# Altium footprint library Spirit_Level_Project.PcbLib: 35 footprints (part 2 of 3)
Each footprint in its own frame and in the unit in brackets; x right, y up, seen from the top. Pads: shape width x height; smd on the part's side, far side on the other; paste and mask are expansions set on the pad; w line width, h text height; cw(c..) or ccw(c..) is an arc to the next point about the centre after c.
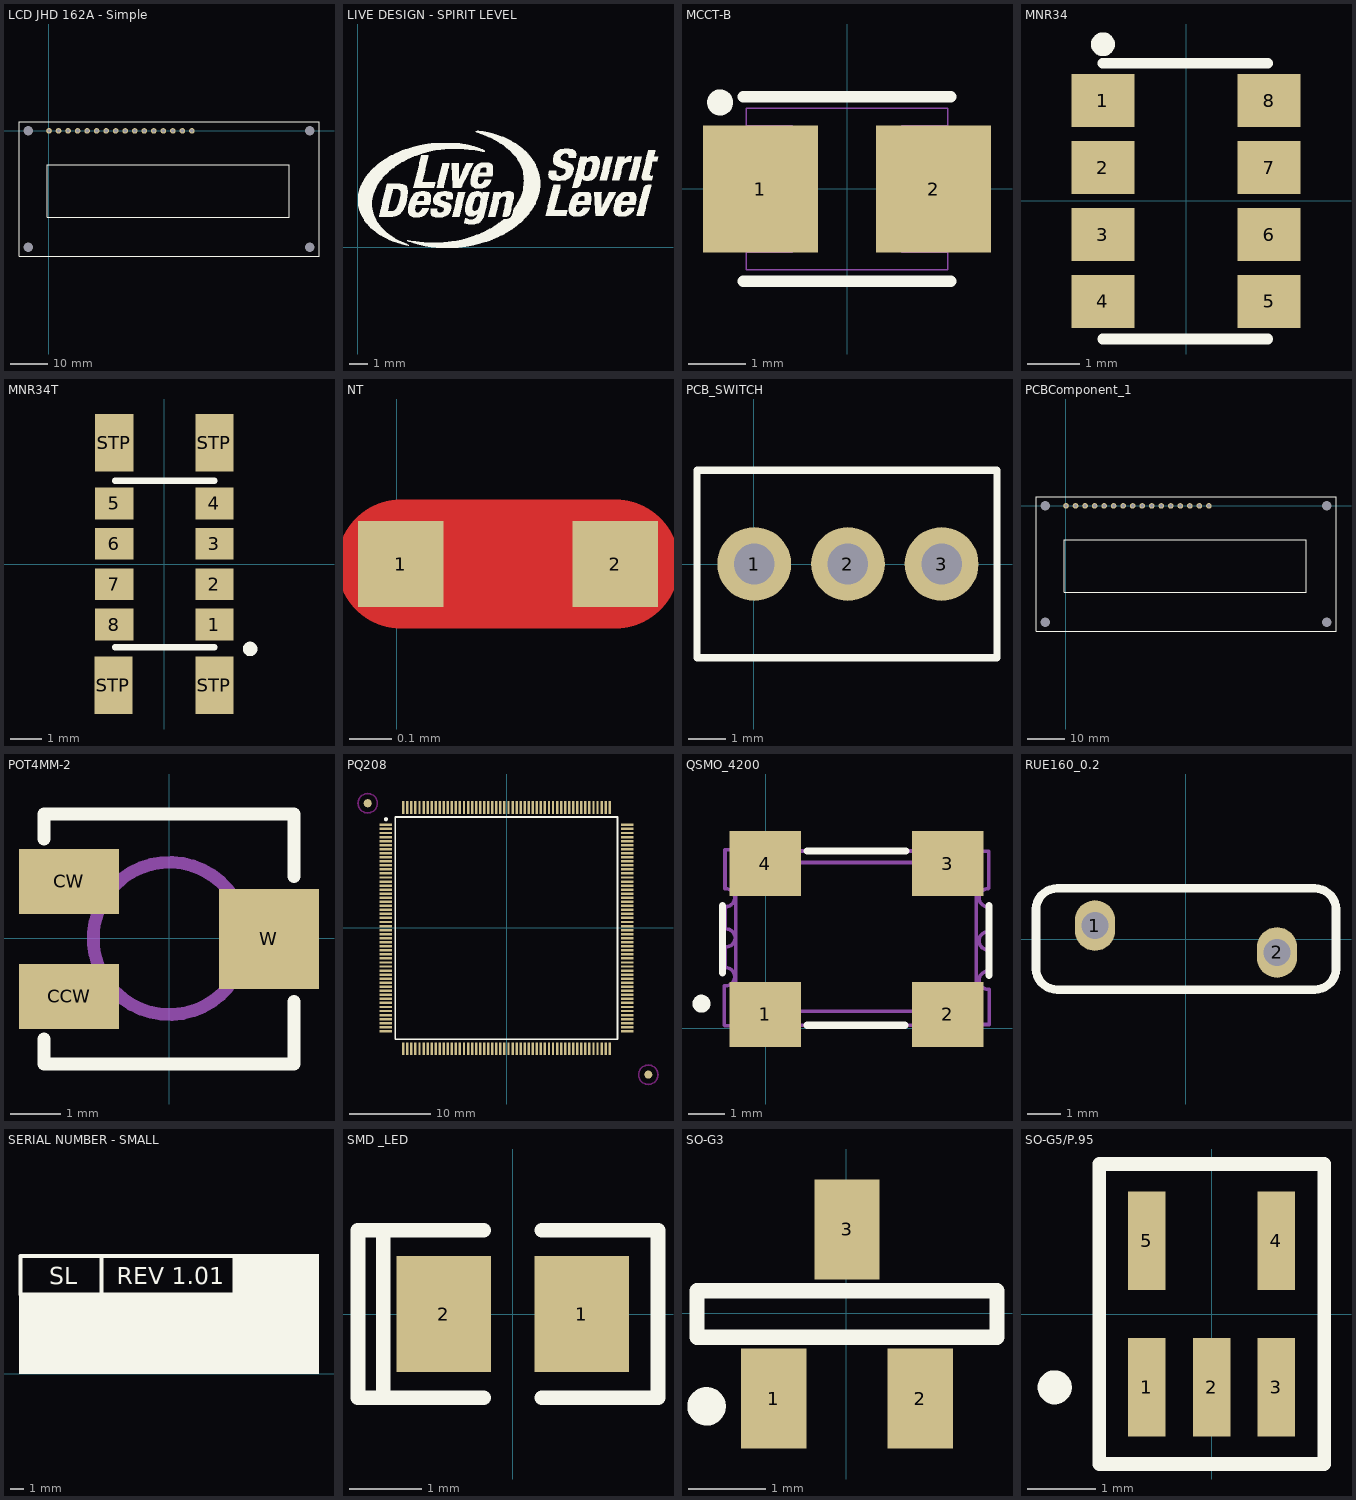
[diagram p1: the footprints below, top view; thin cyan lines are the x and y axes]

## LCD JHD 162A - Simple [mm] "LCD JHD162A Simple Footprint"
pads (20):
  round 1.5 hole 0.9: 1(0,0) 2(2.54,0) 3(5.08,0) 4(7.62,0) 5(10.16,0) 6(12.7,0) 7(15.24,0) 8(17.78,0) 9(20.32,0) 10(22.86,0) 11(25.4,0) 12(27.94,0) 13(30.48,0) 14(33.02,0) 15(35.56,0) 16(38.1,0)
  round 2.3 hole 2.5 unplated: M1(-5.5,0) M2(69.5,0) M3(-5.5,-31) M4(69.5,-31)
Top Overlay:
  lines w0.2: -8,-33.5 -8,2.5 72,2.5 72,-33.5 -8,-33.5 ; -0.5,-23 -0.5,-9 64,-9 64,-23 -0.5,-23

## LIVE DESIGN - SPIRIT LEVEL [mm]
Top Overlay:
  drawing of 2120 lines, arcs and shapes, not listed

## MCCT-B [mm]
pads (2):
  rect 2x2.2 smd: 1(-1.505,-0.002) 2(1.495,-0.002)
Top Overlay:
  circle w0.25: c-2.205,1.498 r0.1
  lines w0.2: -1.805,-1.602 1.795,-1.602 ; -1.805,1.598 1.795,1.598
Mechanical 15:
  lines w0.025: -1.755,-1.102 -0.955,-1.102 -0.955,1.098 -1.755,1.098 ; 1.745,-1.102 0.945,-1.102 0.945,1.098 1.745,1.098 ; -1.755,-1.402 -1.755,1.398 1.745,1.398 1.745,-1.402 -1.755,-1.402
3D body: height 1.27, standoff 0, extent -2.286,-0.889 2.286,0.889

## MNR34 [mm]
pads (8):
  rect 1.2x1 smd: 1(-1.578,1.898) 2(-1.578,0.628) 3(-1.578,-0.642) 4(-1.578,-1.912) 5(1.572,-1.912) 6(1.572,-0.642) 7(1.572,0.628) 8(1.572,1.898)
Top Overlay:
  circle w0.254: c-1.578,2.965 r0.1
  lines w0.2: -1.578,-2.623 1.546,-2.623 ; -1.578,2.609 1.546,2.609
3D body: height 1.27, standoff 0, extent -2.032,-2.286 2.032,2.286

## MNR34T [mm]
pads (12):
  rect 1.2x1 smd: 1(1.575,-1.896) 2(1.575,-0.626) 3(1.575,0.644) 4(1.575,1.914) 5(-1.575,1.914) 6(-1.575,0.644) 7(-1.575,-0.626) 8(-1.575,-1.896)
  rect 1.2x1.8 smd: STP(-1.6,-3.801) STP(-1.575,3.819) STP(1.575,-3.801) STP(1.575,3.819)
Top Overlay:
  circle w0.254: c2.694,-2.658 r0.1
  lines w0.2: -1.549,-2.607 1.575,-2.607 ; -1.549,2.625 1.575,2.625
3D body: height 2, standoff 0, extent -1.649,-2.707 1.675,2.725

## NT [mm]
pads (2):
  rect 0.2x0.2 smd: 1(0.01,0.011) 2(0.51,0.011)
Top Layer:
  lines w0.3: 0.01,0.011 0.51,0.011

## PCB_SWITCH [mm]
pads (3):
  round 2 hole 1.1: 1(0.011,0.005) 2(2.551,0.005) 3(5.091,0.005)
Top Overlay:
  lines w0.2: -1.539,-2.535 -1.539,2.545 6.591,2.545 6.591,-2.535 -1.539,-2.535
3D body: height 8, standoff 0, extent 0.258,-2.282 4.822,2.282
3D body: height 15, standoff 0, extent 1.816,-0.724 3.264,0.724
3D body: height 5.08, standoff 0, extent -1.524,-2.54 6.604,2.54

## PCBComponent_1 [mm]
pads (20):
  round 1.5 hole 0.9: 1(0,0) 2(2.54,0) 3(5.08,0) 4(7.62,0) 5(10.16,0) 6(12.7,0) 7(15.24,0) 8(17.78,0) 9(20.32,0) 10(22.86,0) 11(25.4,0) 12(27.94,0) 13(30.48,0) 14(33.02,0) 15(35.56,0) 16(38.1,0)
  round 2.3 hole 2.5 unplated: M1(-5.5,0) M2(69.5,0) M3(-5.5,-31) M4(69.5,-31)
Top Overlay:
  lines w0.2: -8,-33.5 72,-33.5 72,2.5 -8,2.5 -8,-33.5 ; -0.5,-23 64,-23 64,-9 -0.5,-9 -0.5,-23

## POT4MM-2 [mm]
pads (3):
  rect 2x1.3 smd: CCW(-2.008,-1.162) CW(-2.008,1.138)
  rect 2x2 smd: W(1.992,-0.012)
Top Overlay:
  lines w0.254: -2.508,-2.012 -2.508,-2.512 2.492,-2.512 2.492,-1.262 ; -2.508,1.988 -2.508,2.488 2.492,2.488 2.492,1.238
Mechanical 2:
  circle w0.254: c0,0 r1.524
3D body: height 3.05, standoff 0, extent -1.519,0.132 1.519,1.532
3D body: height 3.05, standoff 0, extent -1.519,-1.532 1.519,-0.132
3D body: height 0.64, standoff 0, extent 1.143,-0.889 2.921,0.889
3D body: height 0.64, standoff 0, extent -2.921,-1.651 -1.143,-0.635
3D body: height 0.64, standoff 0, extent -2.921,0.635 -1.143,1.651
3D body: height 2.54, standoff 0, extent -2.54,-2.413 2.54,2.413
3D body: height 2.67, standoff 0, extent -1.449,-1.449 1.449,1.449

## PQ208 [mm]
pads (210):
  rect 1.55x0.3 smd: 1(-14.902,12.738) 2(-14.902,12.238) 3(-14.902,11.738) 4(-14.902,11.238) 5(-14.902,10.738) 6(-14.902,10.238) 7(-14.902,9.738) 8(-14.902,9.238) 9(-14.902,8.738) 10(-14.902,8.238) 11(-14.902,7.738) 12(-14.902,7.238) 13(-14.902,6.738) 14(-14.902,6.238) 15(-14.902,5.738) 16(-14.902,5.238) 17(-14.902,4.738) 18(-14.902,4.238) 19(-14.902,3.738) 20(-14.902,3.238) 21(-14.902,2.738) 22(-14.902,2.238) 23(-14.902,1.738) 24(-14.902,1.238) 25(-14.902,0.738) 26(-14.902,0.238) 27(-14.902,-0.262) 28(-14.902,-0.762) 29(-14.902,-1.262) 30(-14.902,-1.762) 31(-14.902,-2.262) 32(-14.902,-2.762) 33(-14.902,-3.262) 34(-14.902,-3.762) 35(-14.902,-4.262) 36(-14.902,-4.762) 37(-14.902,-5.262) 38(-14.902,-5.762) 39(-14.902,-6.262) 40(-14.902,-6.762) 41(-14.902,-7.262) 42(-14.902,-7.762) 43(-14.902,-8.262) 44(-14.902,-8.762) 45(-14.902,-9.262) 46(-14.902,-9.762) 47(-14.902,-10.262) 48(-14.902,-10.762) 49(-14.902,-11.262) 50(-14.902,-11.762) 51(-14.902,-12.262) 52(-14.902,-12.762) 105(14.898,-12.762) 106(14.898,-12.262) 107(14.898,-11.762) 108(14.898,-11.262) 109(14.898,-10.762) 110(14.898,-10.262) 111(14.898,-9.762) 112(14.898,-9.262) 113(14.898,-8.762) 114(14.898,-8.262) 115(14.898,-7.762) 116(14.898,-7.262) 117(14.898,-6.762) 118(14.898,-6.262) 119(14.898,-5.762) 120(14.898,-5.262) 121(14.898,-4.762) 122(14.898,-4.262) 123(14.898,-3.762) 124(14.898,-3.262) 125(14.898,-2.762) 126(14.898,-2.262) 127(14.898,-1.762) 128(14.898,-1.262) 129(14.898,-0.762) 130(14.898,-0.262) 131(14.898,0.238) 132(14.898,0.738) 133(14.898,1.238) 134(14.898,1.738) 135(14.898,2.238) 136(14.898,2.738) 137(14.898,3.238) 138(14.898,3.738) 139(14.898,4.238) 140(14.898,4.738) 141(14.898,5.238) 142(14.898,5.738) 143(14.898,6.238) 144(14.898,6.738) 145(14.898,7.238) 146(14.898,7.738) 147(14.898,8.238) 148(14.898,8.738) 149(14.898,9.238) 150(14.898,9.738) 151(14.898,10.238) 152(14.898,10.738) 153(14.898,11.238) 154(14.898,11.738) 155(14.898,12.238) 156(14.898,12.738)
  rect 0.3x1.55 smd: 53(-12.752,-14.912) 54(-12.252,-14.912) 55(-11.752,-14.912) 56(-11.252,-14.912) 57(-10.752,-14.912) 58(-10.252,-14.912) 59(-9.752,-14.912) 60(-9.252,-14.912) 61(-8.752,-14.912) 62(-8.252,-14.912) 63(-7.752,-14.912) 64(-7.252,-14.912) 65(-6.752,-14.912) 66(-6.252,-14.912) 67(-5.752,-14.912) 68(-5.252,-14.912) 69(-4.752,-14.912) 70(-4.252,-14.912) 71(-3.752,-14.912) 72(-3.252,-14.912) 73(-2.752,-14.912) 74(-2.252,-14.912) 75(-1.752,-14.912) 76(-1.252,-14.912) 77(-0.752,-14.912) 78(-0.252,-14.912) 79(0.248,-14.912) 80(0.748,-14.912) 81(1.248,-14.912) 82(1.748,-14.912) 83(2.248,-14.912) 84(2.748,-14.912) 85(3.248,-14.912) 86(3.748,-14.912) 87(4.248,-14.912) 88(4.748,-14.912) 89(5.248,-14.912) 90(5.748,-14.912) 91(6.248,-14.912) 92(6.748,-14.912) 93(7.248,-14.912) 94(7.748,-14.912) 95(8.248,-14.912) 96(8.748,-14.912) 97(9.248,-14.912) 98(9.748,-14.912) 99(10.248,-14.912) 100(10.748,-14.912) 101(11.248,-14.912) 102(11.748,-14.912) 103(12.248,-14.912) 104(12.748,-14.912) 157(12.748,14.888) 158(12.248,14.888) 159(11.748,14.888) 160(11.248,14.888) 161(10.748,14.888) 162(10.248,14.888) 163(9.748,14.888) 164(9.248,14.888) 165(8.748,14.888) 166(8.248,14.888) 167(7.748,14.888) 168(7.248,14.888) 169(6.748,14.888) 170(6.248,14.888) 171(5.748,14.888) 172(5.248,14.888) 173(4.748,14.888) 174(4.248,14.888) 175(3.748,14.888) 176(3.248,14.888) 177(2.748,14.888) 178(2.248,14.888) 179(1.748,14.888) 180(1.248,14.888) 181(0.748,14.888) 182(0.248,14.888) 183(-0.252,14.888) 184(-0.752,14.888) 185(-1.252,14.888) 186(-1.752,14.888) 187(-2.252,14.888) 188(-2.752,14.888) 189(-3.252,14.888) 190(-3.752,14.888) 191(-4.252,14.888) 192(-4.752,14.888) 193(-5.252,14.888) 194(-5.752,14.888) 195(-6.252,14.888) 196(-6.752,14.888) 197(-7.252,14.888) 198(-7.752,14.888) 199(-8.252,14.888) 200(-8.752,14.888) 201(-9.252,14.888) 202(-9.752,14.888) 203(-10.252,14.888) 204(-10.752,14.888) 205(-11.252,14.888) 206(-11.752,14.888) 207(-12.252,14.888) 208(-12.752,14.888)
  round 1 smd: FID1(-17.152,15.413) FID2(17.523,-18.112)
Top Layer keep-out:
  circle w0.2: c-17.152,15.413 r1.2
  circle w0.2: c17.523,-18.137 r1.2
Top Overlay:
  circle w0.25: c-14.902,13.438 r0.125
  lines w0.2: -13.727,-13.737 -13.727,13.713 13.723,13.713 13.723,-13.737 -13.727,-13.737
3D body: height 1, standoff 0, extent 12.636,-15.36 12.866,-13.66
3D body: height 1, standoff 0, extent 12.136,-15.36 12.366,-13.66
3D body: height 1, standoff 0, extent 11.636,-15.36 11.866,-13.66
3D body: height 1, standoff 0, extent 11.136,-15.36 11.366,-13.66
3D body: height 1, standoff 0, extent 10.636,-15.36 10.866,-13.66
3D body: height 1, standoff 0, extent 10.136,-15.36 10.366,-13.66
3D body: height 1, standoff 0, extent 9.636,-15.36 9.866,-13.66
3D body: height 1, standoff 0, extent 9.136,-15.36 9.366,-13.66
3D body: height 1, standoff 0, extent 8.636,-15.36 8.866,-13.66
3D body: height 1, standoff 0, extent 8.136,-15.36 8.366,-13.66
3D body: height 1, standoff 0, extent 7.636,-15.36 7.866,-13.66
3D body: height 1, standoff 0, extent 7.136,-15.36 7.366,-13.66
3D body: height 1, standoff 0, extent 6.636,-15.36 6.866,-13.66
3D body: height 1, standoff 0, extent 6.136,-15.36 6.366,-13.66
3D body: height 1, standoff 0, extent 5.636,-15.36 5.866,-13.66
3D body: height 1, standoff 0, extent 5.136,-15.36 5.366,-13.66
3D body: height 1, standoff 0, extent 4.636,-15.36 4.866,-13.66
3D body: height 1, standoff 0, extent 4.136,-15.36 4.366,-13.66
3D body: height 1, standoff 0, extent 3.636,-15.36 3.866,-13.66
3D body: height 1, standoff 0, extent 3.136,-15.36 3.366,-13.66
3D body: height 1, standoff 0, extent 2.636,-15.36 2.866,-13.66
3D body: height 1, standoff 0, extent 2.136,-15.36 2.366,-13.66
3D body: height 1, standoff 0, extent 1.636,-15.36 1.866,-13.66
3D body: height 1, standoff 0, extent 1.136,-15.36 1.366,-13.66
3D body: height 1, standoff 0, extent 0.636,-15.36 0.866,-13.66
3D body: height 1, standoff 0, extent 0.136,-15.36 0.366,-13.66
3D body: height 1, standoff 0, extent -0.364,-15.36 -0.134,-13.66
3D body: height 1, standoff 0, extent -0.864,-15.36 -0.634,-13.66
3D body: height 1, standoff 0, extent -1.364,-15.36 -1.134,-13.66
3D body: height 1, standoff 0, extent -1.864,-15.36 -1.634,-13.66
3D body: height 1, standoff 0, extent -2.364,-15.36 -2.134,-13.66
3D body: height 1, standoff 0, extent -2.864,-15.36 -2.634,-13.66
3D body: height 1, standoff 0, extent -3.364,-15.36 -3.134,-13.66
3D body: height 1, standoff 0, extent -3.864,-15.36 -3.634,-13.66
3D body: height 1, standoff 0, extent -4.364,-15.36 -4.134,-13.66
3D body: height 1, standoff 0, extent -4.864,-15.36 -4.634,-13.66
3D body: height 1, standoff 0, extent -5.364,-15.36 -5.134,-13.66
3D body: height 1, standoff 0, extent -5.864,-15.36 -5.634,-13.66
3D body: height 1, standoff 0, extent -6.364,-15.36 -6.134,-13.66
3D body: height 1, standoff 0, extent -6.864,-15.36 -6.634,-13.66
3D body: height 1, standoff 0, extent -7.364,-15.36 -7.134,-13.66
3D body: height 1, standoff 0, extent -7.864,-15.36 -7.634,-13.66
3D body: height 1, standoff 0, extent -8.364,-15.36 -8.134,-13.66
3D body: height 1, standoff 0, extent -8.864,-15.36 -8.634,-13.66
3D body: height 1, standoff 0, extent -9.364,-15.36 -9.134,-13.66
3D body: height 1, standoff 0, extent -9.864,-15.36 -9.634,-13.66
3D body: height 1, standoff 0, extent -10.364,-15.36 -10.134,-13.66
3D body: height 1, standoff 0, extent -10.864,-15.36 -10.634,-13.66
3D body: height 1, standoff 0, extent -11.364,-15.36 -11.134,-13.66
3D body: height 1, standoff 0, extent -11.864,-15.36 -11.634,-13.66
3D body: height 1, standoff 0, extent -12.364,-15.36 -12.134,-13.66
3D body: height 1, standoff 0, extent -12.864,-15.36 -12.634,-13.66
3D body: height 1, standoff 0, extent 12.63,13.636 12.86,15.336
3D body: height 1, standoff 0, extent 12.13,13.636 12.36,15.336
3D body: height 1, standoff 0, extent 11.63,13.636 11.86,15.336
3D body: height 1, standoff 0, extent 11.13,13.636 11.36,15.336
3D body: height 1, standoff 0, extent 10.63,13.636 10.86,15.336
3D body: height 1, standoff 0, extent 10.13,13.636 10.36,15.336
3D body: height 1, standoff 0, extent 9.63,13.636 9.86,15.336
3D body: height 1, standoff 0, extent 9.13,13.636 9.36,15.336
3D body: height 1, standoff 0, extent 8.63,13.636 8.86,15.336
3D body: height 1, standoff 0, extent 8.13,13.636 8.36,15.336
3D body: height 1, standoff 0, extent 7.63,13.636 7.86,15.336
3D body: height 1, standoff 0, extent 7.13,13.636 7.36,15.336
3D body: height 1, standoff 0, extent 6.63,13.636 6.86,15.336
3D body: height 1, standoff 0, extent 6.13,13.636 6.36,15.336
3D body: height 1, standoff 0, extent 5.63,13.636 5.86,15.336
3D body: height 1, standoff 0, extent 5.13,13.636 5.36,15.336
3D body: height 1, standoff 0, extent 4.63,13.636 4.86,15.336
3D body: height 1, standoff 0, extent 4.13,13.636 4.36,15.336
3D body: height 1, standoff 0, extent 3.63,13.636 3.86,15.336
3D body: height 1, standoff 0, extent 3.13,13.636 3.36,15.336
3D body: height 1, standoff 0, extent 2.63,13.636 2.86,15.336
3D body: height 1, standoff 0, extent 2.13,13.636 2.36,15.336
3D body: height 1, standoff 0, extent 1.63,13.636 1.86,15.336
3D body: height 1, standoff 0, extent 1.13,13.636 1.36,15.336
3D body: height 1, standoff 0, extent 0.63,13.636 0.86,15.336
3D body: height 1, standoff 0, extent 0.13,13.636 0.36,15.336
3D body: height 1, standoff 0, extent -0.37,13.636 -0.14,15.336
3D body: height 1, standoff 0, extent -0.87,13.636 -0.64,15.336
3D body: height 1, standoff 0, extent -1.37,13.636 -1.14,15.336
3D body: height 1, standoff 0, extent -1.87,13.636 -1.64,15.336
3D body: height 1, standoff 0, extent -2.37,13.636 -2.14,15.336
3D body: height 1, standoff 0, extent -2.87,13.636 -2.64,15.336
3D body: height 1, standoff 0, extent -3.37,13.636 -3.14,15.336
3D body: height 1, standoff 0, extent -3.87,13.636 -3.64,15.336
3D body: height 1, standoff 0, extent -4.37,13.636 -4.14,15.336
3D body: height 1, standoff 0, extent -4.87,13.636 -4.64,15.336
3D body: height 1, standoff 0, extent -5.37,13.636 -5.14,15.336
3D body: height 1, standoff 0, extent -5.87,13.636 -5.64,15.336
3D body: height 1, standoff 0, extent -6.37,13.636 -6.14,15.336
3D body: height 1, standoff 0, extent -6.87,13.636 -6.64,15.336
3D body: height 1, standoff 0, extent -7.37,13.636 -7.14,15.336
3D body: height 1, standoff 0, extent -7.87,13.636 -7.64,15.336
3D body: height 1, standoff 0, extent -8.37,13.636 -8.14,15.336
3D body: height 1, standoff 0, extent -8.87,13.636 -8.64,15.336
3D body: height 1, standoff 0, extent -9.37,13.636 -9.14,15.336
3D body: height 1, standoff 0, extent -9.87,13.636 -9.64,15.336
3D body: height 1, standoff 0, extent -10.37,13.636 -10.14,15.336
3D body: height 1, standoff 0, extent -10.87,13.636 -10.64,15.336
3D body: height 1, standoff 0, extent -11.37,13.636 -11.14,15.336
3D body: height 1, standoff 0, extent -11.87,13.636 -11.64,15.336
3D body: height 1, standoff 0, extent -12.37,13.636 -12.14,15.336
3D body: height 1, standoff 0, extent -12.87,13.636 -12.64,15.336
3D body: height 1, standoff 0, extent 13.646,12.626 15.346,12.856
3D body: height 1, standoff 0, extent 13.646,12.126 15.346,12.356
3D body: height 1, standoff 0, extent 13.646,11.626 15.346,11.856
3D body: height 1, standoff 0, extent 13.646,11.126 15.346,11.356
3D body: height 1, standoff 0, extent 13.646,10.626 15.346,10.856
3D body: height 1, standoff 0, extent 13.646,10.126 15.346,10.356
3D body: height 1, standoff 0, extent 13.646,9.626 15.346,9.856
3D body: height 1, standoff 0, extent 13.646,9.126 15.346,9.356
3D body: height 1, standoff 0, extent 13.646,8.626 15.346,8.856
3D body: height 1, standoff 0, extent 13.646,8.126 15.346,8.356
3D body: height 1, standoff 0, extent 13.646,7.626 15.346,7.856
3D body: height 1, standoff 0, extent 13.646,7.126 15.346,7.356
3D body: height 1, standoff 0, extent 13.646,6.626 15.346,6.856
3D body: height 1, standoff 0, extent 13.646,6.126 15.346,6.356
3D body: height 1, standoff 0, extent 13.646,5.626 15.346,5.856
3D body: height 1, standoff 0, extent 13.646,5.126 15.346,5.356
3D body: height 1, standoff 0, extent 13.646,4.626 15.346,4.856
3D body: height 1, standoff 0, extent 13.646,4.126 15.346,4.356
3D body: height 1, standoff 0, extent 13.646,3.626 15.346,3.856
3D body: height 1, standoff 0, extent 13.646,3.126 15.346,3.356
3D body: height 1, standoff 0, extent 13.646,2.626 15.346,2.856
3D body: height 1, standoff 0, extent 13.646,2.126 15.346,2.356
3D body: height 1, standoff 0, extent 13.646,1.626 15.346,1.856
3D body: height 1, standoff 0, extent 13.646,1.126 15.346,1.356
3D body: height 1, standoff 0, extent 13.646,0.626 15.346,0.856
3D body: height 1, standoff 0, extent 13.646,0.126 15.346,0.356
3D body: height 1, standoff 0, extent 13.646,-0.374 15.346,-0.144
3D body: height 1, standoff 0, extent 13.646,-0.874 15.346,-0.644
3D body: height 1, standoff 0, extent 13.646,-1.374 15.346,-1.144
3D body: height 1, standoff 0, extent 13.646,-1.874 15.346,-1.644
3D body: height 1, standoff 0, extent 13.646,-2.374 15.346,-2.144
3D body: height 1, standoff 0, extent 13.646,-2.874 15.346,-2.644
3D body: height 1, standoff 0, extent 13.646,-3.374 15.346,-3.144
3D body: height 1, standoff 0, extent 13.646,-3.874 15.346,-3.644
3D body: height 1, standoff 0, extent 13.646,-4.374 15.346,-4.144
3D body: height 1, standoff 0, extent 13.646,-4.874 15.346,-4.644
3D body: height 1, standoff 0, extent 13.646,-5.374 15.346,-5.144
3D body: height 1, standoff 0, extent 13.646,-5.874 15.346,-5.644
3D body: height 1, standoff 0, extent 13.646,-6.374 15.346,-6.144
3D body: height 1, standoff 0, extent 13.646,-6.874 15.346,-6.644
3D body: height 1, standoff 0, extent 13.646,-7.374 15.346,-7.144
3D body: height 1, standoff 0, extent 13.646,-7.874 15.346,-7.644
3D body: height 1, standoff 0, extent 13.646,-8.374 15.346,-8.144
3D body: height 1, standoff 0, extent 13.646,-8.874 15.346,-8.644
3D body: height 1, standoff 0, extent 13.646,-9.374 15.346,-9.144
3D body: height 1, standoff 0, extent 13.646,-9.874 15.346,-9.644
3D body: height 1, standoff 0, extent 13.646,-10.374 15.346,-10.144
3D body: height 1, standoff 0, extent 13.646,-10.874 15.346,-10.644
3D body: height 1, standoff 0, extent 13.646,-11.374 15.346,-11.144
3D body: height 1, standoff 0, extent 13.646,-11.874 15.346,-11.644
3D body: height 1, standoff 0, extent 13.646,-12.374 15.346,-12.144
3D body: height 1, standoff 0, extent 13.646,-12.874 15.346,-12.644
3D body: height 1, standoff 0, extent -15.35,-12.88 -13.65,-12.65
3D body: height 1, standoff 0, extent -15.35,-12.38 -13.65,-12.15
3D body: height 1, standoff 0, extent -15.35,-11.88 -13.65,-11.65
3D body: height 1, standoff 0, extent -15.35,-11.38 -13.65,-11.15
3D body: height 1, standoff 0, extent -15.35,-10.88 -13.65,-10.65
3D body: height 1, standoff 0, extent -15.35,-10.38 -13.65,-10.15
3D body: height 1, standoff 0, extent -15.35,-9.88 -13.65,-9.65
3D body: height 1, standoff 0, extent -15.35,-9.38 -13.65,-9.15
3D body: height 1, standoff 0, extent -15.35,-8.88 -13.65,-8.65
3D body: height 1, standoff 0, extent -15.35,-8.38 -13.65,-8.15
3D body: height 1, standoff 0, extent -15.35,-7.88 -13.65,-7.65
3D body: height 1, standoff 0, extent -15.35,-7.38 -13.65,-7.15
3D body: height 1, standoff 0, extent -15.35,-6.88 -13.65,-6.65
3D body: height 1, standoff 0, extent -15.35,-6.38 -13.65,-6.15
3D body: height 1, standoff 0, extent -15.35,-5.88 -13.65,-5.65
3D body: height 1, standoff 0, extent -15.35,-5.38 -13.65,-5.15
3D body: height 1, standoff 0, extent -15.35,-4.88 -13.65,-4.65
3D body: height 1, standoff 0, extent -15.35,-4.38 -13.65,-4.15
3D body: height 1, standoff 0, extent -15.35,-3.88 -13.65,-3.65
3D body: height 1, standoff 0, extent -15.35,-3.38 -13.65,-3.15
3D body: height 1, standoff 0, extent -15.35,-2.88 -13.65,-2.65
3D body: height 1, standoff 0, extent -15.35,-2.38 -13.65,-2.15
3D body: height 1, standoff 0, extent -15.35,-1.88 -13.65,-1.65
3D body: height 1, standoff 0, extent -15.35,-1.38 -13.65,-1.15
3D body: height 1, standoff 0, extent -15.35,-0.88 -13.65,-0.65
3D body: height 1, standoff 0, extent -15.35,-0.38 -13.65,-0.15
3D body: height 1, standoff 0, extent -15.35,0.12 -13.65,0.35
3D body: height 1, standoff 0, extent -15.35,0.62 -13.65,0.85
3D body: height 1, standoff 0, extent -15.35,1.12 -13.65,1.35
3D body: height 1, standoff 0, extent -15.35,1.62 -13.65,1.85
3D body: height 1, standoff 0, extent -15.35,2.12 -13.65,2.35
3D body: height 1, standoff 0, extent -15.35,2.62 -13.65,2.85
3D body: height 1, standoff 0, extent -15.35,3.12 -13.65,3.35
3D body: height 1, standoff 0, extent -15.35,3.62 -13.65,3.85
3D body: height 1, standoff 0, extent -15.35,4.12 -13.65,4.35
3D body: height 1, standoff 0, extent -15.35,4.62 -13.65,4.85
3D body: height 1, standoff 0, extent -15.35,5.12 -13.65,5.35
3D body: height 1, standoff 0, extent -15.35,5.62 -13.65,5.85
3D body: height 1, standoff 0, extent -15.35,6.12 -13.65,6.35
3D body: height 1, standoff 0, extent -15.35,6.62 -13.65,6.85
3D body: height 1, standoff 0, extent -15.35,7.12 -13.65,7.35
3D body: height 1, standoff 0, extent -15.35,7.62 -13.65,7.85
3D body: height 1, standoff 0, extent -15.35,8.12 -13.65,8.35
3D body: height 1, standoff 0, extent -15.35,8.62 -13.65,8.85
3D body: height 1, standoff 0, extent -15.35,9.12 -13.65,9.35
3D body: height 1, standoff 0, extent -15.35,9.62 -13.65,9.85
3D body: height 1, standoff 0, extent -15.35,10.12 -13.65,10.35
3D body: height 1, standoff 0, extent -15.35,10.62 -13.65,10.85
3D body: height 1, standoff 0, extent -15.35,11.12 -13.65,11.35
3D body: height 1, standoff 0, extent -15.35,11.62 -13.65,11.85
3D body: height 1, standoff 0, extent -15.35,12.12 -13.65,12.35
3D body: height 1, standoff 0, extent -15.35,12.62 -13.65,12.85
3D body: height 2.5, standoff 0, extent -13.716,-13.716 13.716,13.716

## QSMO_4200 [mm]
pads (4):
  rect 2x1.8 smd: 1(-0.009,0.39) 2(5.071,0.39) 3(5.071,4.59) 4(-0.009,4.59)
Top Overlay:
  circle w0.25: c-1.784,0.69 r0.125
  lines w0.2: -1.203,1.54 -1.203,3.419 ; 1.152,4.943 3.902,4.943 ; 1.159,0.092 3.877,0.092 ; 6.214,1.479 6.214,3.419
Mechanical 15:
  lines w0.1: -1.152,0.092 -1.152,1.184 ; -1.129,0.08 -0.279,0.08 -0.299,0.1 ; -1.129,3.89 -1.129,4.97 -0.269,4.97 ; -1.127,1.692 -1.127,2.276 ; -1.127,2.784 -1.127,3.369 ; -1.109,1.19 ccw(c-1.109,1.44) -1.109,1.69 ; -1.109,3.39 ccw(c-1.109,3.64) -1.109,3.89 ; -1.099,2.27 ccw(c-1.099,2.52) -1.099,2.77 ; -0.839,0.48 5.861,0.48 5.861,4.62 -0.829,4.62 -0.829,3.9 -0.829,0.5 ; -0.309,0.14 cw(c-0.059,0.14) 0.191,0.14 ; -0.239,4.9 ccw(c0.011,4.9) 0.261,4.9 ; 0.181,0.09 4.771,0.09 ; 0.241,4.94 4.861,4.94 ; 4.791,0.15 cw(c5.041,0.15) 5.291,0.15 ; 4.871,4.9 ccw(c5.121,4.9) 5.371,4.9 ; 5.281,0.11 6.221,0.11 6.221,1.09 ; 5.341,4.93 6.211,4.93 6.211,3.9 ; 6.188,1.61 6.188,2.175 ; 6.191,1.09 cw(c6.191,1.34) 6.191,1.59 ; 6.191,2.19 cw(c6.191,2.44) 6.191,2.69 ; 6.191,3.39 cw(c6.191,3.64) 6.191,3.89 ; 6.214,2.694 6.214,3.369
3D body: height 1.5, standoff 0, extent -1.143,0.127 6.096,4.953
3D body: height 0.75, standoff 0, extent -0.8,4 0.8,5.3
3D body: height 0.75, standoff 0, extent 4.28,4 5.88,5.3
3D body: height 0.75, standoff 0, extent -0.818,-0.319 0.782,0.981
3D body: height 0.75, standoff 0, extent 4.28,-0.2 5.88,1.1

## RUE160_0.2 [mm]
pads (2):
  oval 1.2x1.5 hole 0.8: 1(-2.7,0.4) 2(2.7,-0.4)
Top Overlay:
  lines w0.254: -4.45,-0.889 ccw(c-3.827,-0.877) -3.815,-1.5 3.815,-1.5 ccw(c3.827,-0.877) 4.45,-0.889 4.45,0.889 ccw(c3.827,0.877) 3.815,1.5 -3.815,1.5 ccw(c-3.827,0.877) -4.45,0.889 -4.45,-0.889
3D body: height 12, standoff 0, extent -4.46,-1.513 4.46,1.513

## SERIAL NUMBER - SMALL [mm]
Top Overlay:
  rectangle: 2.807,-0.01 19.19,6.117
  rectangle: 19.052,-0.01 25.402,9.007
  lines w0.3: 9.019,5.959 9.019,8.88 ; 2.923,5.959 2.923,8.88 19.052,8.88 19.052,5.959 2.923,5.959
  text "SL" at 5.082,6.721 h1.3
  text "REV 1.01" at 10.162,6.721 h1.3

## SMD _LED [mm]
pads (2):
  rect 1.3x1.6 smd: 1(0.948,0.006) 2(-0.952,0.006)
Top Overlay:
  lines w0.2: -1.782,-1.144 -1.782,1.156 ; -0.402,-1.144 -2.132,-1.144 -2.132,1.156 -0.402,1.156 ; 0.398,-1.144 1.998,-1.144 1.998,1.156 0.398,1.156
3D body: height 0.64, standoff 0, extent -1.524,-0.635 1.524,0.635
3D body: height 1.27, standoff 0, extent -0.508,-0.508 0.508,0.508

## SO-G3 [mm]
pads (3):
  rect 0.85x1.3 smd: 1(-0.939,-1.107) 2(0.961,-1.107) 3(0.011,1.093)
Top Overlay:
  circle w0.25: c-1.814,-1.207 r0.125
  lines w0.2: -1.939,-0.307 1.961,-0.307 1.961,0.293 -1.939,0.293 -1.939,-0.307
3D body: height 2.54, standoff 0, extent -1.651,-0.635 1.651,0.635
3D body: height 0.51, standoff 0, extent -1.27,-1.524 -0.635,-0.635
3D body: height 0.51, standoff 0, extent 0.63,-1.524 1.265,-0.635
3D body: height 0.51, standoff 0, extent -0.293,0.621 0.342,1.51

## SO-G5/P.95 [mm]
pads (5):
  rect 0.55x1.45 smd: 1(-0.954,-1.07) 2(-0.004,-1.07) 3(0.946,-1.07) 4(0.946,1.08) 5(-0.954,1.08)
Top Overlay:
  circle w0.25: c-2.304,-1.07 r0.125
  lines w0.2: -1.654,-2.195 1.646,-2.195 1.646,2.205 -1.654,2.205 -1.654,-2.195
3D body: height 0.89, standoff 0, extent -1.27,-1.778 1.27,1.778